# EAGLE library part 750310849 (library WE-OLPI)
WE-OLPI Offline Flyback Transformers Characteristics Universal offline input voltage Output power from 2 to 35 W Operating temperature: –40 °C to +125 °C Isolation voltage: up to 5000VAC Applications Offline-switch mode power supplies Especially designed for several ICs from Power Integrations <https://www.we-online.com/components/media/o801423v209%20FAMILY-MID-OLPI.jpg> Details see: www.we-online.com/en/components/products/WE-OLPI <www.we-online.com/catalog/WE-OLPI/?utm_source=eagle_model&utm_medium=description_link&utm_campaign=eisos_eagle> Created by Ella Wu 2024-07-03 2024 (C) Wurth Elektronik
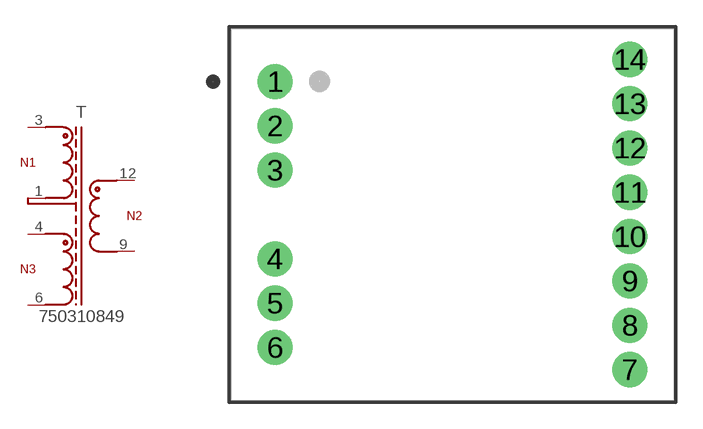
[diagram p5: symbol with the pads of WE-OLPI_EE20/10/6_L21W25H16; footprint WE-OLPI_EE20/10/6_L21W25H16]

Designator prefix T

## 750310849 (DATASHEET-URL: https://www.we-online.com/redexpert/spec/750310849?ae; FSWITCH: 132kHz; HEIGHT: 16mm; IOUT1: 1000A; ISAT: 900V; L: 0.9uH; LENGTH: 21mm; MOUNT: THT; N: 8 : 1 : 2; PART-NUMBER: 750310849; SIZE: EE20/10/6; VALUE: 750310849; VAUX: 22V; VIN: 85 - 265 V (AC); VOUT1: 12V; VT: 5000V(AC); WIDTH: 25mm)  [WE-OLPI_EE20/10/6_L21W25H16]
1  1  pas
3  3  pas
4  4  pas
6  6  pas
9  9  pas
12  12  pas

## Footprint WE-OLPI_EE20/10/6_L21W25H16 (pad centres in mm)
MID-OLPI Offline Flyback Transformers for Power Integrations Size:EE20/10/6,THT,14pins LXWXH=21X25X16mm
drill 1.32: 1 -10,7.5; 2 -10,5; 3 -10,2.5; 4 -10,-2.5; 5 -10,-5; 6 -10,-7.5; 7 10,-8.75; 8 10,-6.25; 9 10,-3.75; 10 10,-1.25; 11 10,1.25; 12 10,3.75; 13 10,6.25; 14 10,8.75